# EAGLE library part ATTO84 (library User-Submitted)
Sparkfun SPX-14804 ATTO84 - DIP package Arduino compatible controller with micronucleus The Atto84 is essentially a breakout board for the absolutely minute WQFN ATtiny84, but we've done some work to make it easier to program. First off, we've added a micro-USB connector and a firmware-based USB driver for the ATtiny that allows you to program the chip over USB. In addition, we've created an Arduino board profile that combines this bootloader with an extremely full-featured ATtiny Arduino core. SparkFun Products: Atto84 with Arduino Bootloader - SPX-14804 - Sparkfun Electronics <https://www.sparkfun.com/products/14804> GitHub Repo <https://github.com/sparkfunX/Atto84>
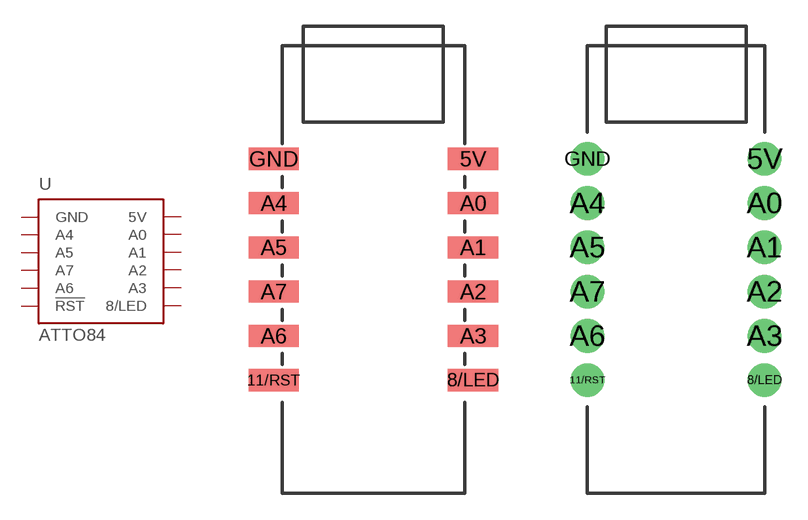
[diagram p13: symbol with the pads of ATTO84-SMD; footprints ATTO84-SMD, ATTO84-THT]

Designator prefix -

## ATTO84_SMD  [ATTO84-SMD]
5V  5V
8/LED  8/LED
11/RST  !RST  in
A0  A0
A1  A1
A2  A2
A3  A3
A4  A4
A5  A5
A6  A6
A7  A7
GND  GND

## ATTO84_THT  [ATTO84-THT]
Pads as for ATTO84-SMD

## Footprint ATTO84-SMD (pad centres in mm)
ATTO84 - DIP package Arduino compatible controller with micronucleus Specifications: Pin count: 12 Pin pitch: .1" Area: [11mm x 28mm]
smd 2.883 x 1.27: 5V 4.445,3.81; 8/LED 4.445,-8.89; 11/RST -6.985,-8.89; A0 4.445,1.27; A1 4.445,-1.27; A2 4.445,-3.81; A3 4.445,-6.35; A4 -6.985,1.27; A5 -6.985,-1.27; A6 -6.985,-6.35; A7 -6.985,-3.81; GND -6.985,3.81

## Footprint ATTO84-THT (pad centres in mm)
ATTO84 - DIP package Arduino compatible controller with micronucleus Specifications: Pin count: 12 Pin pitch: .1" Area: [11mm x 28mm]
drill 1 pad 1.93: 5V 5.08,6.35; 8/LED 5.08,-6.35; 11/RST -5.08,-6.35; A0 5.08,3.81; A1 5.08,1.27; A2 5.08,-1.27; A3 5.08,-3.81; A4 -5.08,3.81; A5 -5.08,1.27; A6 -5.08,-3.81; A7 -5.08,-1.27; GND -5.08,6.35